# EAGLE library part 23A640-I/P (library Memory)
IC SRAM 64K SPI 20MHZ 8DIP Manufacturer's datasheet <http://ww1.microchip.com/downloads/en/DeviceDoc/22126E.pdf>
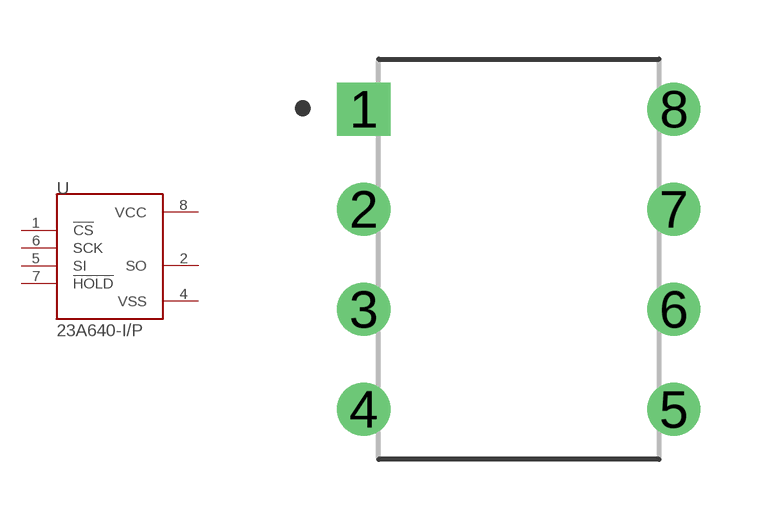
[diagram p13: symbol with the pads of PDIP8; footprint PDIP8]

Designator prefix U

## 23A640-I/P (CREATED_BY: PCBLayout.com; DIGIKEY_PARTNO: 23A640-I/P-ND; MANUFACTURER: Microchip Technology; MPN: 23A640-I/P; PACKAGE: PDIP-8)  [PDIP8]
1  !CS  in
2  SO  out
4  VSS  pwr
5  SI  in
6  SCK  in
7  !HOLD  in
8  VCC  pwr

## Footprint PDIP8 (pad centres in mm)
drill 0.84 square: 1 -3.937,3.81
drill 0.84: 2 -3.937,1.27; 3 -3.937,-1.27; 4 -3.937,-3.81; 5 3.937,-3.81; 6 3.937,-1.27; 7 3.937,1.27; 8 3.937,3.81